# EAGLE library part CONN_RJ45_SH (library GPLIB_CONN)
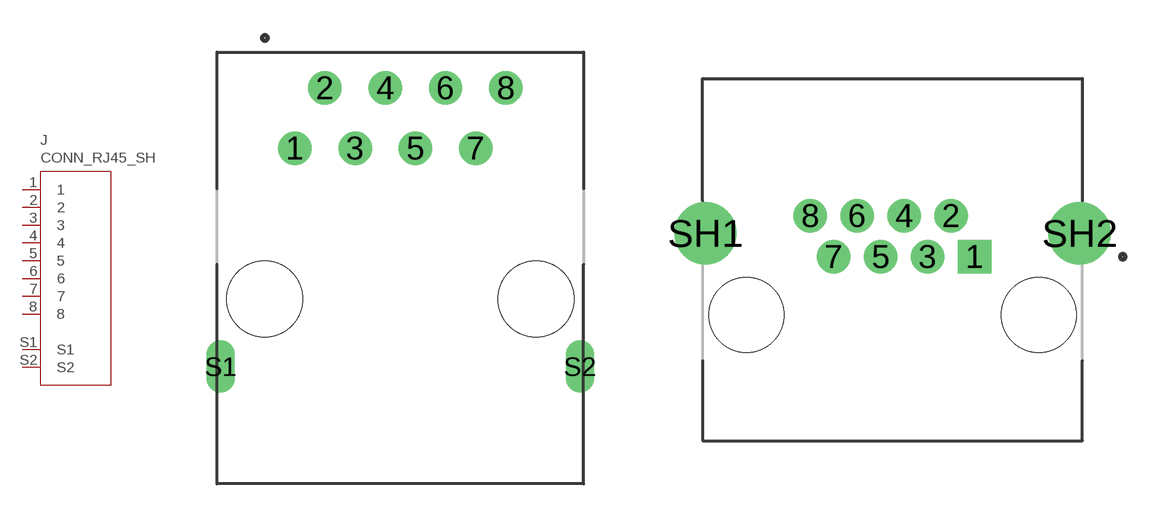
[diagram p33: symbol with the pads of CONN_RJ45_58_8P8C; footprints CONN_RJ45_58_8P8C, CONN_RJ45_RA_TAB_UP_56L-88102011]

Designator prefix J

## CONN_RJ45_SH_KH-RJ45-58-8P8C  [CONN_RJ45_58_8P8C]
1  1
2  2
3  3
4  4
5  5
6  6
7  7
8  8
S1  S1
S2  S2

## CONN_RJ45_SH_56L-88102011  [CONN_RJ45_RA_TAB_UP_56L-88102011]
1  1
2  2
3  3
4  4
5  5
6  6
7  7
8  8
SH1  S1
SH2  S2

## Footprint CONN_RJ45_58_8P8C (pad centres in mm)
drill 0.9 pad 1.4: 1 -4.445,6.35; 2 -3.175,8.89; 3 -1.905,6.35; 4 -0.635,8.89; 5 0.635,6.35; 6 1.905,8.89; 7 3.175,6.35; 8 4.445,8.89
drill 0.7 pad 1.1 slot 1.7 rotated 90: S1 -7.565,-2.85; S2 7.565,-2.85
hole 3.2 at 5.715,0
hole 3.2 at -5.715,0

## Footprint CONN_RJ45_RA_TAB_UP_56L-88102011 (pad centres in mm)
drill 0.94 pad 1.422 square: 1 3.57,2.54
drill 0.94 pad 1.422: 2 2.55,4.32; 3 1.53,2.54; 4 0.51,4.32; 5 -0.51,2.54; 6 -1.53,4.32; 7 -2.55,2.54; 8 -3.57,4.32
drill 1.8 pad 2.54: SH1 -8.13,3.56; SH2 8.13,3.56
hole 3.25 at -6.35,0
hole 3.25 at 6.35,0